# Altium schematic symbol library RF-Receiver.SchLib: 1 symbol
Pins are listed as number, name and electrical type; pins without a type are passive.

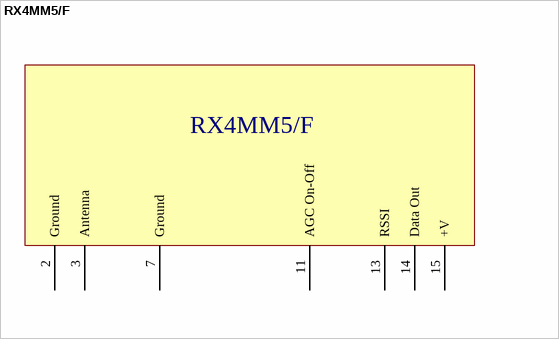
[diagram p0: symbol RX4MM5/F]

## RX4MM5/F
designator U?
RF Signal Receiver; LatestRevisionDate: 25-Oct-2012; DatasheetVersion: 2012; PackageReference: TO-92A; Publisher: FJ Limited; ComponentLink1Description: Manufacturer Link; ComponentLink1URL: https://www.aurelwireless.com/; ComponentLink2Description: Datasheet
footprint TO-92A (TO, Flat Index; 3 In-Line, Axial Leads; Body Dia. 4.5mm; Leads 0.51 x 0.48 mm (max))
simulation model 2N3904 (NPN)
signal-integrity model 2N3904
pins: 2 Ground, 3 Antenna, 7 Ground, 11 AGC On-Off, 13 RSSI, 14 Data Out, 15 +V